# EAGLE library part ATTINY84A (library Railstars)
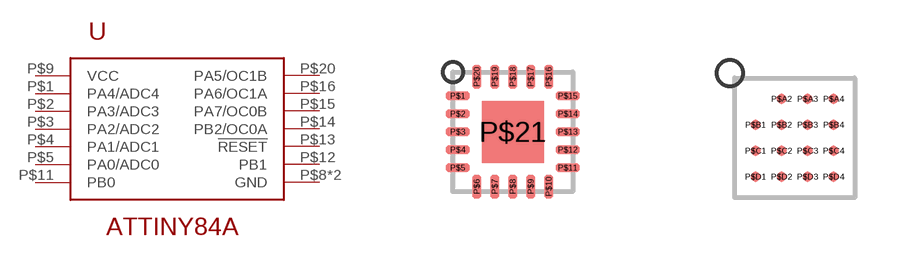
[diagram p16: symbol with the pads of VQFN-20; footprints VQFN-20, UFBGA-20]

Designator prefix -

## ATTINY84A-MMH  [VQFN-20]
P$1  PA4/ADC4
P$2  PA3/ADC3
P$3  PA2/ADC2
P$4  PA1/ADC1
P$5  PA0/ADC0
P$8  GND
P$9  VCC
P$11  PB0
P$12  PB1
P$13  !RESET
P$14  PB2/OC0A
P$15  PA7/OC0B
P$16  PA6/OC1A
P$20  PA5/OC1B
P$21  GND

## ATTINY84A-CCU  [UFBGA-20]
P$A2  PA5/OC1B
P$A3  PA6/OC1A
P$A4  PB2/OC0A
P$B1  PA4/ADC4
P$B2  PA7/OC0B
P$B3  PB1
P$B4  !RESET
P$C1  PA3/ADC3
P$C2  PA2/ADC2
P$C3  PA1/ADC1
P$C4  PB0
P$D1  PA0/ADC0
P$D2  GND
P$D3  GND
P$D4  VCC

## Footprint VQFN-20 (pad centres in mm)
smd 0.6 x 0.22: P$1 -1.375,0.9; P$2 -1.375,0.45; P$3 -1.375,0; P$4 -1.375,-0.45; P$5 -1.375,-0.9; P$11 1.375,-0.9; P$12 1.375,-0.45; P$13 1.375,0; P$14 1.375,0.45; P$15 1.375,0.9
smd 0.22 x 0.6: P$6 -0.9,-1.375; P$7 -0.45,-1.375; P$8 0,-1.375; P$9 0.45,-1.375; P$10 0.9,-1.375; P$16 0.9,1.375; P$17 0.45,1.375; P$18 0,1.375; P$19 -0.45,1.375; P$20 -0.9,1.375
smd 1.55 x 1.55: P$21 0,0

## Footprint UFBGA-20 (pad centres in mm)
smd 0.25 x 0.25: P$A2 -0.325,0.975; P$A3 0.325,0.975; P$A4 0.975,0.975; P$B1 -0.975,0.325; P$B2 -0.325,0.325; P$B3 0.325,0.325; P$B4 0.975,0.325; P$C1 -0.975,-0.325; P$C2 -0.325,-0.325; P$C3 0.325,-0.325; P$C4 0.975,-0.325; P$D1 -0.975,-0.975; P$D2 -0.325,-0.975; P$D3 0.325,-0.975; P$D4 0.975,-0.975